# Altium footprint library Xbee.PcbLib: 2 footprints
Each footprint in its own frame and in the unit in brackets; x right, y up, seen from the top. Pads: shape width x height; smd on the part's side, far side on the other; paste and mask are expansions set on the pad; w line width, h text height; cw(c..) or ccw(c..) is an arc to the next point about the centre after c.
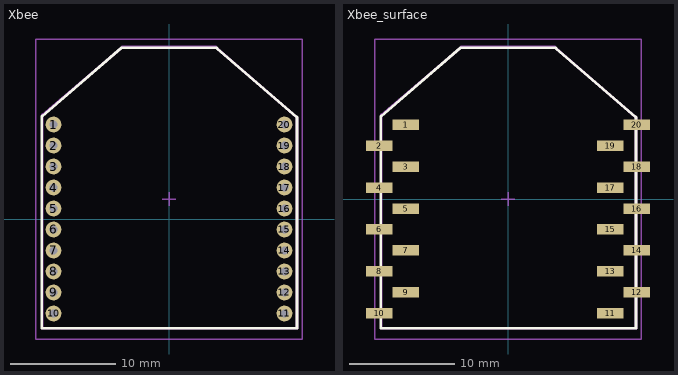
[diagram p0: the footprints below, top view; thin cyan lines are the x and y axes]

## Xbee [mm]
pads (20):
  round 1.5 hole 0.8: 1(-11,9) 2(-11,7) 3(-11,5) 4(-11,3) 5(-11,1) 6(-11,-1) 7(-11,-3) 8(-11,-5) 9(-11,-7) 10(-11,-9) 11(11,-9) 12(11,-7) 13(11,-5) 14(11,-3) 15(11,-1) 16(11,1) 17(11,3) 18(11,5) 19(11,7) 20(11,9)
Top Overlay:
  lines w0.254: 4.518,16.31 -4.518,16.31 -12.108,9.78 -12.108,-10.414 12.192,-10.414 12.192,9.696 ; 4.572,16.256 12.162,9.726
Mechanical 13:
  lines w0.254: -12.065,-10.414 12.192,-10.414 12.192,9.652 4.445,16.383 -4.445,16.383 -12.065,9.906 -12.065,-10.414
Mechanical 15:
  lines w0.127: -0.635,1.905 0.635,1.905 ; 0,1.27 0,2.54 ; -12.7,-11.43 12.7,-11.43 12.7,17.145 -12.7,17.145 -12.7,-11.43
Mechanical 17:
  text ".Designator" at -5.842,-2.921 h2
3D body: height 6.5, standoff -1, extent -12.237,-11.193 12.263,16.707

## Xbee_surface [mm]
pads (20):
  rect 2.5x1 smd: 1(-9.73,7.095) 2(-12.27,5.095) 3(-9.73,3.095) 4(-12.27,1.095) 5(-9.73,-0.905) 6(-12.27,-2.905) 7(-9.73,-4.905) 8(-12.27,-6.905) 9(-9.73,-8.905) 10(-12.27,-10.905) 11(9.73,-10.905) 12(12.27,-8.905) 13(9.73,-6.905) 14(12.27,-4.905) 15(9.73,-2.905) 16(12.27,-0.905) 17(9.73,1.095) 18(12.27,3.095) 19(9.73,5.095) 20(12.27,7.095)
Top Overlay:
  lines w0.254: 4.518,14.405 -4.518,14.405 -12.108,7.875 -12.108,-12.319 12.192,-12.319 12.192,7.791 ; 4.572,14.351 12.162,7.821
Mechanical 13:
  lines w0.254: -12.065,-12.319 12.192,-12.319 12.192,7.747 4.445,14.478 -4.445,14.478 -12.065,8.001 -12.065,-12.319
Mechanical 15:
  lines w0.127: -0.635,0 0.635,0 ; 0,-0.635 0,0.635 ; -12.7,-13.335 12.7,-13.335 12.7,15.24 -12.7,15.24 -12.7,-13.335
Mechanical 17:
  text ".Designator" at -5.842,-4.826 h2
3D body: height 7.5, standoff 0, extent -12.237,-13.098 12.263,14.802